# Altium footprint library DRR0012A.PcbLib: 1 footprints
Each footprint in its own frame and in the unit in brackets; x right, y up, seen from the top. Pads: shape width x height; smd on the part's side, far side on the other; paste and mask are expansions set on the pad; w line width, h text height; cw(c..) or ccw(c..) is an arc to the next point about the centre after c.
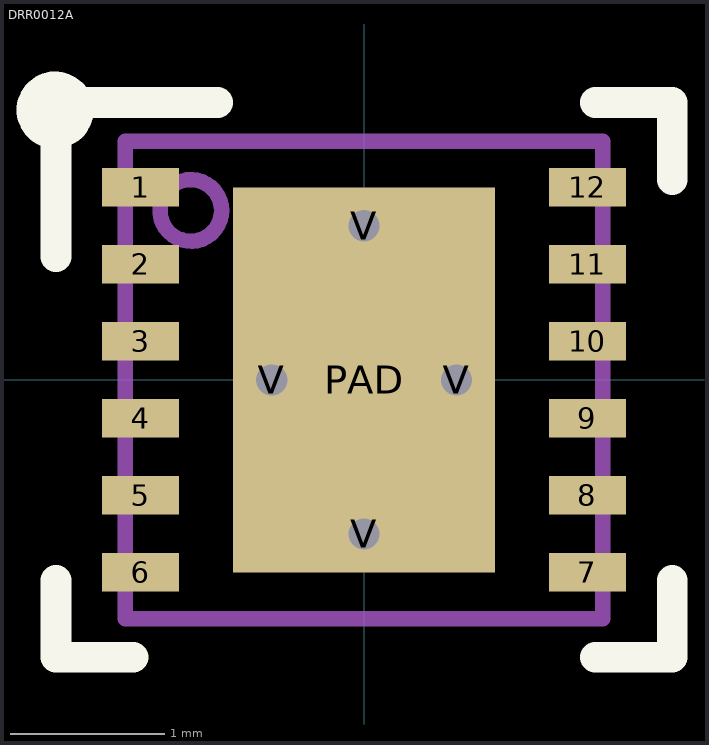
[diagram p0: the footprint, top view; thin cyan lines are the x and y axes]

## DRR0012A [mm]
pads (17):
  rect 0.5x0.25 smd paste-0.102 mask+0.051: 1(-1.45,1.25) 2(-1.45,0.75) 3(-1.45,0.25) 4(-1.45,-0.25) 5(-1.45,-0.75) 6(-1.45,-1.25) 7(1.45,-1.25) 8(1.45,-0.75) 9(1.45,-0.25) 10(1.45,0.25) 11(1.45,0.75) 12(1.45,1.25)
  rect 1.7x2.5 smd paste-1.237 mask+0.051: PAD(0,0)
  round 0.5 hole 0.203 mask+0.051: V(-0.6,0) V(0,-1) V(0,1) V(0.6,0)
Top Overlay:
  circle w0.25: c-2.006,1.752 r0.125
  lines w0.2: -2,-1.3 -2,-1.8 -1.5,-1.8 ; -2,0.8 -2,1.8 -0.95,1.8 ; 1.5,-1.8 2,-1.8 2,-1.3 ; 1.5,1.8 2,1.8 2,1.3
Top Paste:
  region: -0.775,1.215 -0.775,0.105 0.775,0.105 0.775,1.215
  region: 0.775,-1.215 0.775,-0.105 -0.775,-0.105 -0.775,-1.215
Mechanical 13:
  circle w0.1: c-1.125,1.1 r0.2
  lines w0.1: -1.55,-1.55 1.55,-1.55 1.55,1.55 -1.55,1.55 -1.55,-1.55
3D body: height 0.25, standoff 0, extent 0,0 0.254,0.254
3D body "DRR0012A.stp": height 0.77, standoff 0, extent -1.5,-1.5 1.5,1.5